# Altium schematic symbol library E220-400T30S.SCHLIB: 1 symbol
Pins are listed as number, name and electrical type; pins without a type are passive.

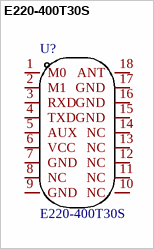
[diagram p0: symbol E220-400T30S]

## E220-400T30S
designator U?
lora模块LLCC68/SX1278/1262芯片433M无线数传10000米通信低功耗; Manufacturer: EBYTE(亿佰特); Add into BOM: yes; Symbol: E220-400T30S; Device: E220-400T30S; LCSC Part Name: E220-400T30S; Supplier Part: C970282; Manufacturer Part: E220-400T30S; Supplier Footprint: -; JLCPCB Part Class: 扩展库; Datasheet: https://atta.szlcsc.com/upload/public/pdf/source/20201211/C970282_A99896A4917B8D36C45628500F558F34.pdf; Supplier: LCSC; Convert to PCB: yes; Name: E220-400T30S
footprint WIRELM-SMD_E220-400T30S
3D model WIRELM-SMD_L40.5-W25.0-H3.7-E220-400T30S
footprint WIRELM-SMD_E220-400T30S
pins: 1 M0, 2 M1, 3 RXD, 4 TXD, 5 AUX, 6 VCC, 7 GND, 8 NC, 9 GND, 10 NC, 11 NC, 12 NC, 13 NC, 14 NC, 15 GND, 16 GND, 17 GND, 18 ANT